# Altium schematic symbol library KTA1170.SchLib: 1 symbol
Pins are listed as number, name and electrical type; pins without a type are passive.

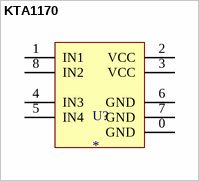
[diagram p0: symbol KTA1170]

## KTA1170
designator U?
pins: 0 GND (power), 1 IN1 (power), 2 VCC (power), 3 VCC (power), 4 IN3 (power), 5 IN4 (power), 6 GND (power), 7 GND (power), 8 IN2 (power)